# Altium footprint library Active-Motor.PcbLib: 2 footprints
Each footprint in its own frame and in the unit in brackets; x right, y up, seen from the top. Pads: shape width x height; smd on the part's side, far side on the other; paste and mask are expansions set on the pad; w line width, h text height; cw(c..) or ccw(c..) is an arc to the next point about the centre after c.
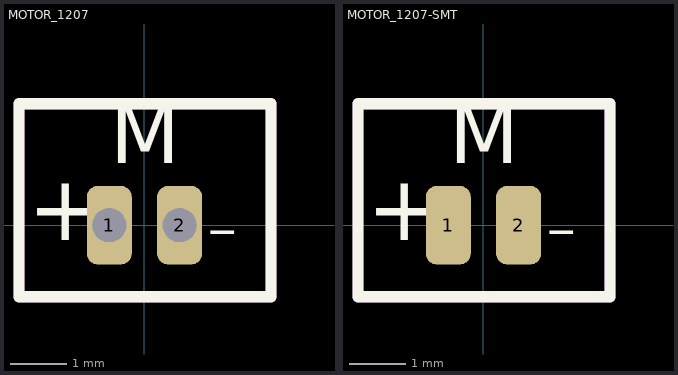
[diagram p0: the footprints below, top view; thin cyan lines are the x and y axes]

## MOTOR_1207 [mm] "扁平1027 振动马达"
pads (2):
  rrect50% 0.8x1.4 hole 0.6: 1(-0.625,0) 2(0.625,0)
Top Overlay:
  lines w0.2: -2.229,-1.27 -2.229,2.159 2.249,2.159 2.249,-1.27 -2.229,-1.27
  text "-" at 1.101,-0.907 h2
  text "+" at -2.074,-0.653 h2
  text "M" at -0.611,0.757 h1.8
Top Value:
  text "'.Comment'" at -4.304,0.181 h2
Top Designator:
  text "'.Designator'" at -5.637,0.337 h2
Top Assembly (Mech20):
  lines w0.2: -2.229,-1.27 -2.229,2.159 2.249,2.159 2.249,-1.27 -2.229,-1.27

## MOTOR_1207-SMT [mm] "扁平1027 振动马达"
pads (2):
  rrect50% 0.8x1.4 smd: 1(-0.625,0) 2(0.625,0)
Top Overlay:
  lines w0.2: -2.229,-1.27 2.249,-1.27 2.249,2.159 -2.229,2.159 -2.229,-1.27
  text "M" at -0.611,0.757 h1.8
  text "+" at -2.074,-0.653 h2
  text "-" at 1.101,-0.907 h2
Top Value:
  text "'.Comment'" at -4.304,0.181 h2
Top Designator:
  text "'.Designator'" at -5.637,0.337 h2
Top Assembly (Mech20):
  lines w0.2: -2.229,-1.27 2.249,-1.27 2.249,2.159 -2.229,2.159 -2.229,-1.27